# Altium schematic symbol library CRHT_Connectors_SCH.SchLib: 9 symbols
Pins are listed as number, name and electrical type; pins without a type are passive.

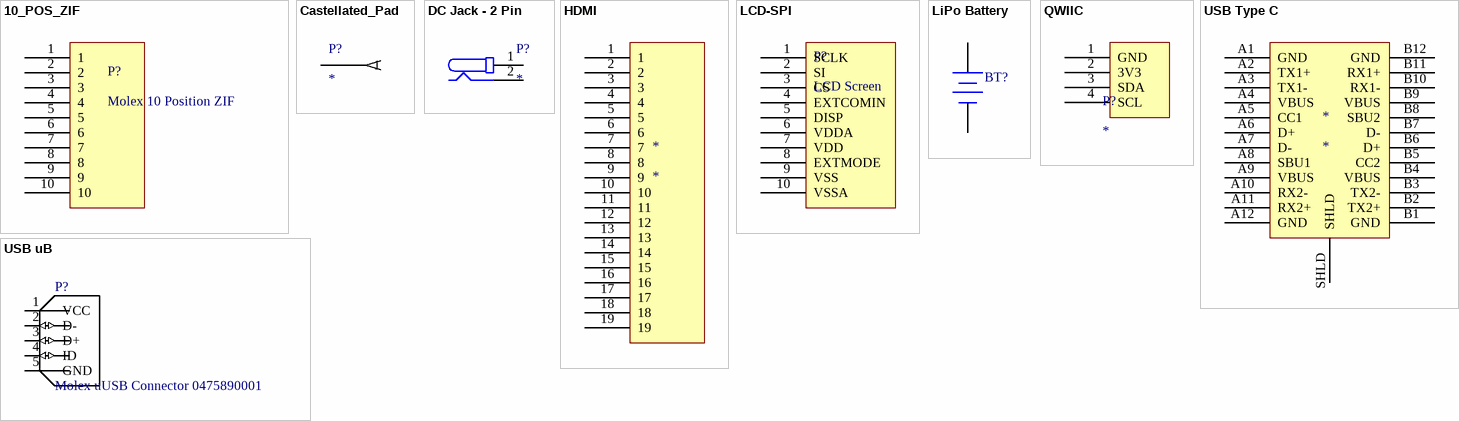
[diagram p0: symbols 10_POS_ZIF to USB uB]

## 10_POS_ZIF
designator P?, comment Molex 10 Position ZIF
Molex 10 Position ZIF / 503480-1000
footprint MOLEX_5034801000 (Molex 10 position ZIF connector)
pins: 1, 2, 3, 4, 5, 6, 7, 8, 9, 10

## Castellated_Pad
designator P?
footprint Castellated Pad
pins: 1

## DC Jack - 2 Pin
designator P?
DC Power Connectors Power Jacks
footprint PJ-063BH
pins: 1, 2

## HDMI
designator *
footprint HDMI - 19 Pin SMT (0.50mm Pitch HDMI* Receptacle, Right Angle, 0.76µm Gold (Au) Plating, Front Solder Tab Length 1.80mm, Shell 74151 Series)
pins: 1, 2, 3, 4, 5, 6, 7, 8, 9, 10, 11, 12, 13, 14, 15, 16, 17, 18, 19

## LCD-SPI
designator P?, comment LCD Screen
FH12-10S-0.5SH[55] Connector For LCD Screens
footprint FH12-10S-0.5SH[55] (10-Pin Connector LCD)
pins: 1 SCLK, 2 SI, 3 CS, 4 EXTCOMIN, 5 DISP, 6 VDDA, 7 VDD, 8 EXTMODE, 9 VSS, 10 VSSA

## LiPo Battery
designator BT?, comment JST-PH2 LiPo Battery  (value not drawn)
JST PH 2 Pin / 1769; Published: 24-Mar-1999; LatestRevisionDate: 17-Jul-2002; LatestRevisionNote: Re-released for DXP Platform.; PackageReference: BAT-2; Publisher: Altium Limited; PackageDescription: Battery; 2 Leads
footprint S2B-PH-SM4-TB(LF)(SN) (JST 2 Position PH series SMT Connector)
footprint JST-PH2
pins: 1 -, 2 +

## QWIIC
designator P?
footprint QWIIC
pins: 1 GND (power), 2 3V3 (power), 3 SDA, 4 SCL

## USB Type C
designator *
footprint Molex_105450-0101 (Molex_105450-0101 USB Type C Right Angle)
pins: A1 GND (power), A2 TX1+, A3 TX1-, A4 VBUS (power), A5 CC1, A6 D+, A7 D-, A8 SBU1, A9 VBUS (power), A10 RX2-, A11 RX2+, A12 GND (power), B1 GND (power), B2 TX2+, B3 TX2-, B4 VBUS (power), B5 CC2, B6 D+, B7 D-, B8 SBU2, B9 VBUS (power), B10 RX1-, B11 RX1+, B12 GND (power), SHLD (power)

## USB uB
designator P?, comment Molex uUSB Connector 0475890001
Conn Micro USB Type AB RCP 5 POS 0.65mm Solder RA SMD 5 Terminal 1 Port T/R; SnapEDA_Link: https://www.snapeda.com/parts/0475890001/Molex/view-part/?ref=snap; Digi-Key_Part_Number: WM17143CT-ND; Digi-Key_Purchase_URL: https://www.digikey.com/product-detail/en/molex/0475890001/WM17143CT-ND/1832255?utm_source=snapeda&utm_medium=aggregator&utm_campaign=symbol; Package: None; MP: 0475890001; MF: Molex; Value: *
footprint MOLEX_0475890001 (Molex USB uB Connector)
pins: 1 VCC (power), 2 D- (io), 3 D+ (io), 4 ID (io), 5 GND (power)